# Altium footprint library TDK_G.PcbLib: 1 footprints
Each footprint in its own frame and in the unit in brackets; x right, y up, seen from the top. Pads: shape width x height; smd on the part's side, far side on the other; paste and mask are expansions set on the pad; w line width, h text height; cw(c..) or ccw(c..) is an arc to the next point about the centre after c.
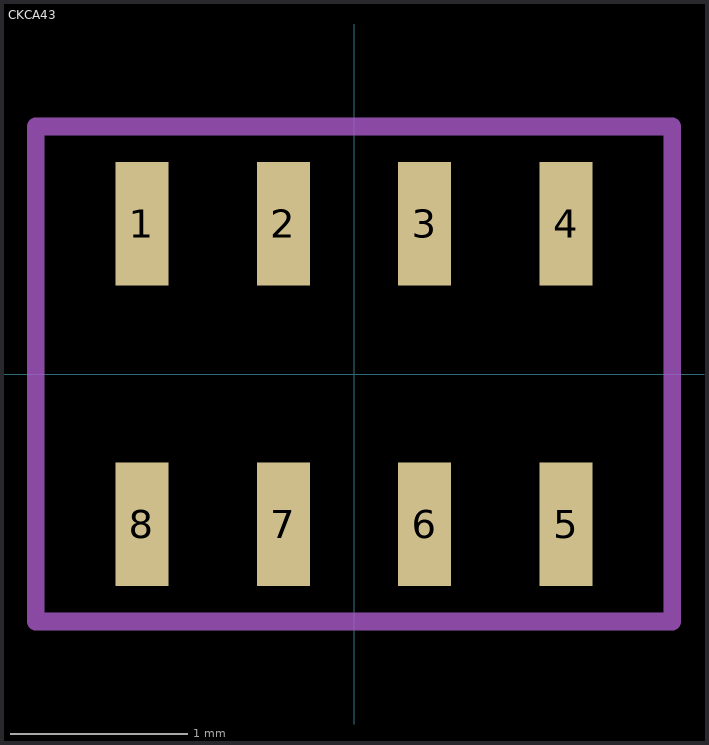
[diagram p0: the footprint, top view; thin cyan lines are the x and y axes]

## CKCA43 [mm]
height 1
pads (8):
  rect 0.3x0.7 smd mask+0: 1(-1.2,0.85) 2(-0.4,0.85) 3(0.4,0.85) 4(1.2,0.85) 5(1.2,-0.85) 6(0.4,-0.85) 7(-0.4,-0.85) 8(-1.2,-0.85)
Mechanical 15:
  lines w0.1: -1.8,-1.4 -1.8,1.4 1.8,1.4 1.8,-1.4 -1.8,-1.4
3D body: height 1, standoff 0, extent -1.6,-0.8 1.6,0.8